# Altium footprint library composants passifs.pcblib: 53 footprints (part 3 of 4)
Each footprint in its own frame and in the unit in brackets; x right, y up, seen from the top. Pads: shape width x height; smd on the part's side, far side on the other; paste and mask are expansions set on the pad; w line width, h text height; cw(c..) or ccw(c..) is an arc to the next point about the centre after c.
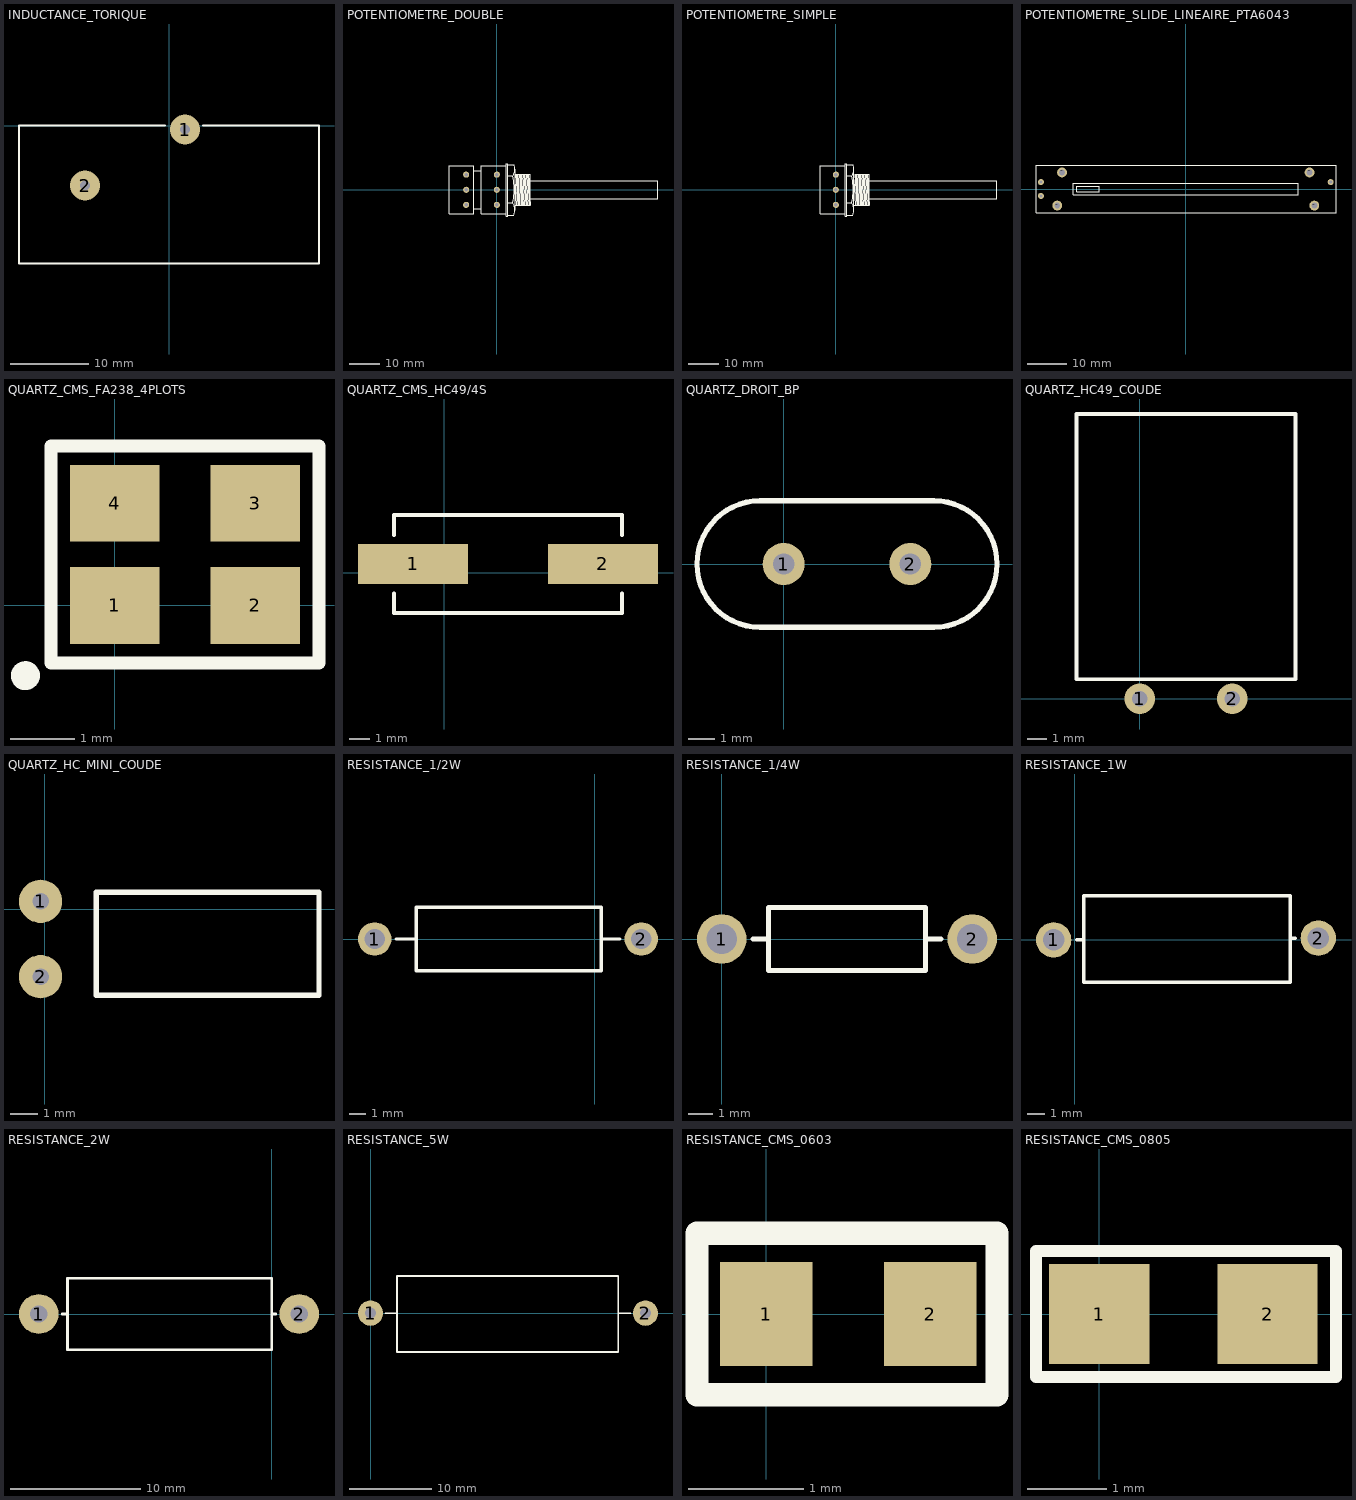
[diagram p2: the footprints below, top view; thin cyan lines are the x and y axes]

## INDUCTANCE_TORIQUE [mil] "INDUCTANCE TORIQUE ; DIAMETRE : 32mm"
height 1299.21
pads (2):
  round 150 hole 52: 1(80,-20) 2(-420,-300)
Top Overlay:
  lines w7.87: -750,0 -750,-690 100,-690 750,-690 750,0 170,0
  lines w8: -750,0 -20,0
3D body: height 1532.04, standoff -574.51, extent -744.85,-689.11 744.85,-10

## POTENTIOMETRE_DOUBLE [mm] "POTENTIOMETRE DOUBLE ; ESPACEMENT RANGEES : 10.16mm ; ESPACEMENT BROCHES : 5mm"
height 25
pads (6):
  round 2 hole 1.2: 1(0,5) 2(0,0) 3(0,-5) 4(-10.16,5) 5(-10.16,0) 6(-10.16,-5)
Top Overlay:
  lines w0.1: 5.969,3.302 6.493,-5.087 ; 6.223,5.08 6.858,-5.08 ; 6.604,5.08 7.239,-5.08 ; 6.985,5.08 7.62,-5.08 ; 7.366,5.08 8.001,-5.08 ; 7.747,5.08 8.382,-5.08 ; 8.128,5.08 8.763,-5.08 ; 8.509,5.08 9.144,-5.08 ; 8.89,5.08 9.525,-5.08 ; 9.271,5.08 9.906,-5.08 ; 9.652,5.08 10.287,-5.08 ; 10.033,5.08 10.668,-5.08 ; 10.414,5.08 11.049,-5.08
  lines w0.2: -7.62,-6.35 -5.08,-6.35 ; -7.62,6.35 -5.08,6.35 ; 1.27,8 -5.08,8 -5.08,-8 1.397,-8 ; 1.27,8.001 3.048,8.001 3.048,-8.001 1.397,-8.001 ; 3.683,-8.382 5.588,-8.382 ; 3.683,8.255 5.721,8.255 ; 3.717,4.606 5.346,4.606 cw(c-20.119,0.252) 5.3,-4.36 ; 3.76,-4.368 5.343,-4.368 cw(c1.364,-6.633) 5.594,-8.385 ; 5.387,4.613 ccw(c1.383,6.834) 5.734,8.259 ; 6,-5.08 11.049,-5.08 11.049,5.08 6.223,5.08 ; 6.069,-6.858 6.069,6.858 ; 11.049,-3.048 53.34,-3.048 53.34,3.048 11.049,3.048 ; -15.748,-8.001 -15.748,8.001 -7.62,8.001 -7.62,-8.001 -15.748,-8.001 ; 3.048,-8.763 3.683,-8.763 3.683,8.636 3.048,8.636 3.048,-8.763

## POTENTIOMETRE_SIMPLE [mm] "POTENTIOMETRE SIMPLE MONOTOUR ; ESPACEMENT BROCHES : 5mm"
height 25
pads (3):
  round 2 hole 1.2: 1(0,5) 2(0,0) 3(0,-5)
Top Overlay:
  lines w0.1: 5.969,3.302 6.493,-5.087 ; 6.223,5.08 6.858,-5.08 ; 6.604,5.08 7.239,-5.08 ; 6.985,5.08 7.62,-5.08 ; 7.366,5.08 8.001,-5.08 ; 7.747,5.08 8.382,-5.08 ; 8.128,5.08 8.763,-5.08 ; 8.509,5.08 9.144,-5.08 ; 8.89,5.08 9.525,-5.08 ; 9.271,5.08 9.906,-5.08 ; 9.652,5.08 10.287,-5.08 ; 10.033,5.08 10.668,-5.08 ; 10.414,5.08 11.049,-5.08
  lines w0.2: -5.08,-8 -5.08,8 1.27,8 ; 1.27,8.001 3.048,8.001 3.048,-8.001 1.397,-8.001 ; 3.683,-8.382 5.588,-8.382 ; 3.683,8.255 5.721,8.255 ; 3.717,4.606 5.346,4.606 cw(c-20.119,0.252) 5.3,-4.36 ; 3.76,-4.368 5.343,-4.368 cw(c1.364,-6.633) 5.594,-8.385 ; 5.387,4.613 ccw(c1.383,6.834) 5.734,8.259 ; 5.969,-6.858 5.969,6.858 ; 6.096,-5.08 11.049,-5.08 11.049,5.08 6.223,5.08 ; 11.049,-3.048 53.34,-3.048 53.34,3.048 11.049,3.048 ; 3.048,-8.763 3.048,8.636 3.683,8.636 3.683,-8.763 3.048,-8.763
  lines w0.254: -5.08,-8 1.397,-8
3D body: height 28.75, standoff 0.38, extent -5.096,-11.689 56.404,11.811

## POTENTIOMETRE_SLIDE_LINEAIRE_PTA6043 [mm] "POTENTIOMETRE SLIDE LINEAIRE PTA6043 ; BAS PROFIL ; DIMENSIONS : 75mm x 9mm"
height 24.5
pads (7):
  round 1.524 hole 0.8: 1(-36.75,1.75) 2(-36.75,-1.75) 3(36.75,1.75)
  round 2.5 hole 1.5: -(-32.6,-4.2) -(-31.4,4.2) -(31.4,4.2) -(32.6,-4.2)
Top Overlay:
  lines w0.2: -38,-6 -38,6 38.1,6 38.1,-6 -38,-6
  lines w0.254: -28.5,-1.5 -28.5,1.5 28.5,1.5 28.5,-1.5 -28.5,-1.5 ; -27.7,-0.7 -27.7,0.7 -22,0.7 -22,-0.7 -27.7,-0.7

## QUARTZ_CMS_FA238_4PLOTS [mm] "QUARTZ CMS ; DIMENSIONS : 2.5mm x 3.2mm ; ESPACEMENT BROCHES : 2.2mm"
height 0.7
pads (4):
  rect 1.4x1.2 smd: 1(0,0) 2(2.2,0) 3(2.2,1.6) 4(0,1.6)
Top Overlay:
  circle w0.254: c-1.4,-1.1 r0.1
  lines w0.2: -1,-0.9 3.2,-0.9 3.2,2.5 -1,2.5 -1,-0.9
3D body: height 0.81, standoff 0, extent -0.5,-0.45 2.714,2.05

## QUARTZ_CMS_HC49/4S [mm] "QUARTZ CMS HC49 ;  DIMENSIONS : 11.4mm x 4.9mm ; ESPACEMENT BROCHES : 9.5mm"
height 3.5
pads (2):
  rect 5.5x2 smd: 1(-1.554,0.447) 2(7.945,0.447)
Top Overlay:
  lines w0.2: -2.498,-1.016 -2.498,-1.998 8.892,-1.998 8.892,-1.018 ; -2.498,1.905 -2.498,2.897 8.892,2.897 8.892,1.907
3D body: height 5.08, standoff 0, extent -3.5,-2 9.9,2.9

## QUARTZ_DROIT_BP [mil] "QUARTZ DROIT BAS PROFIL ; DIMENSIONS : 11.43mm x 4.82mm ; ESPACEMENT BROCHES : 4.82mm"
height 125.98
pads (2):
  round 63 hole 32: 1(0,0) 2(190,0)
Top Overlay:
  lines w7.87: -130,0 ccw(c-35,0) -35,-95 225,-95 ccw(c225,0) 320,0 ccw(c225,0) 225,95 -35,95 ccw(c-35,0) -130,0
3D body: height 137.8, standoff -157.48, extent -128.94,-92.52 317.91,90.55

## QUARTZ_HC49_COUDE [mil] "QUARTZ HC49 COUDE ; DIMENSIONS : 13.84mm x 11.43mm ; ESPACEMENT BROCHES : 4.82mm"
pads (2):
  round 63 hole 32: 1(0,0) 2(190,0)
Top Overlay:
  lines w7.87: -130,40 -130,585 320,585 320,40 -130,40
3D body: height 530.92, standoff -77.74, extent -125.44,-94.49 314.42,89.47

## QUARTZ_HC_MINI_COUDE [mil] "QUARTZ CYLINDRIQUE FAIBLE FREQUENCE HC MINI ; DIMENSIONS : 8.25mm x 3.8mm ; ESPACEMENT BROCHES : 2.54 mm"
height 118.11
pads (2):
  round 63 hole 24: 1(-5.91,11.61) 2(-5.91,-98.23)
Top Overlay:
  lines w8: 75,-125 75,25 400,25 400,-125 75,-125
3D body: height 303.15, standoff -70.87, extent -5.91,-98.23 82.68,11.61

## RESISTANCE_1/2W [mil] "RESISTANCE TRAVERSANTE 0.5W ; DIAMETRE : 3.8mm ; LONGUEUR : 10.16mm ; PAS : 15.24mm"
height 157.48
pads (2):
  round 79 hole 48: 1(-519.68,0) 2(110.24,0)
Top Overlay:
  lines w7.87: -468.5,0 -421.26,0 ; 19.68,0 59.06,0 ; -421.26,-75 15.75,-75 15.75,75 -421.26,75 -421.26,-75
3D body: height 169.29, standoff -114.17, extent -531.5,-82.68 122.05,82.68

## RESISTANCE_1/4W [mil] "RESISTANCE 0.25W; DIAMETRE : 2.54mm ; LONGUEUR : 6.35mm ; PAS : 10.16mm"
height 118.11
pads (2):
  round 79 hole 48: 1(0,0) 2(400,0)
Top Overlay:
  lines w7.87: 50,0 75,0 ; 350,0 325,0 ; 75,0 75,50 325,50 325,0 ; 75,0 75,-50 325,-50 325,0
3D body: height 115.5, standoff -100, extent -15.15,-47.24 408.85,43.76

## RESISTANCE_1W [mil] "RESISTANCE 1W ; DIAMETRE : 5.08mm ; LONGUEUR : 12mm ; PAS : 17.78mm"
height 204.72
pads (2):
  round 79 hole 48: 1(-47.24,0) 2(543.31,3.94)
Top Overlay:
  lines w7.87: 3.94,0 15,0 ; 484.25,3.94 492.13,3.94 ; 19.68,-94.49 19.68,98.43 480.31,98.43 480.31,-94.49 19.68,-94.49
3D body: height 183.07, standoff -82.68, extent -61.02,-86.61 557.09,90.55

## RESISTANCE_2W [mil] "RESISTANCE 2W; DIAMETRE : 5.5mm ; LONGUEUR : 16mm ; PAS : 22mm"
height 236.22
pads (2):
  round 120 hole 52: 1(-704.72,0) 2(82.68,0)
Top Overlay:
  lines w7.87: -633.86,0 -618.11,0 ; 0,0 11.81,0 ; -618.11,-108.27 -618.11,108.27 0,108.27 0,-108.27 -618.11,-108.27
3D body: height 196.85, standoff -86.61, extent -720.47,-98.43 98.43,98.43

## RESISTANCE_5W [mil] "RESISTANCE 5W ; DIAMETRE : 8.5mm ; LONGUEUR : 26mm ; PAS : 2mm"
height 354.33
pads (2):
  round 120 hole 52: 1(0,0) 2(1311.02,0)
Top Overlay:
  lines w7.87: 70.87,0 125.98,0 ; 1181.1,0 1240.16,0 ; 125.98,-185.04 125.98,177.17 1181.1,177.17 1181.1,-185.04 125.98,-185.04
3D body: height 368.11, standoff -157.48, extent -11.81,-175.2 1319.68,167.32

## RESISTANCE_CMS_0603 [mm] "RESISTANCE CMS 0603 ; DIMENSIONS : 1.6mm x 0.8mm"
height 0.5
pads (2):
  rect 0.8x0.9 smd: 1(0,0) 2(1.422,0)
Top Overlay:
  lines w0.2: -0.6,-0.7 2,-0.7 2,0.7 -0.6,0.7 -0.6,-0.7
3D body: height 0.44, standoff -0.03, extent -0.1,-0.4 1.5,0.4

## RESISTANCE_CMS_0805 [mil] "RESISTANCE CMS 0805 ; DIMENSIONS : 2mm x 1.25mm"
height 19.68
pads (2):
  rect 50x50 smd: 1(0,0) 2(84,0)
Top Overlay:
  lines w6: -31.5,-31.5 118.11,-31.5 118.11,31.5 -31.5,31.5 -31.5,-31.5
3D body: height 30.79, standoff 0, extent 3.94,-23.62 82.68,25.59